# EAGLE library part BQ21040 (library soumilcustom)
TI BQ21040 Single Cell Li-ion/Li-Po Charger 0.8A Single Input Single-Cell Li-Ion and Li-Pol Battery Charger Package: PDSO6 / SOT23 6 Pin Texas Instruments
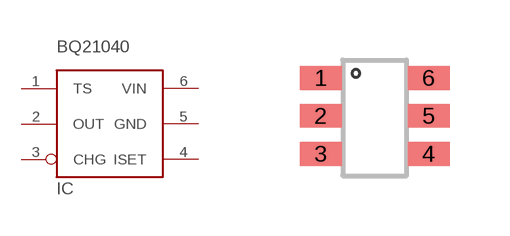
[diagram p2: symbol with the pads of SOT23_6PIN; footprint SOT23_6PIN]

Designator prefix IC

## BQ21040  [SOT23_6PIN]
1  TS
2  OUT
3  CHG
4  ISET
5  GND
6  VIN

## Footprint SOT23_6PIN (pad centres in mm)
smd 1.05 x 0.6: 1 -1.312,0.926; 2 -1.312,-0.024; 3 -1.312,-0.974; 4 1.388,-0.974; 5 1.388,-0.024; 6 1.388,0.926